# Altium schematic symbol library AL8861QMP-13.SchLib: 1 symbol
Pins are listed as number, name and electrical type; pins without a type are passive.

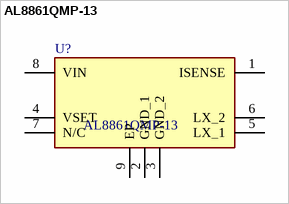
[diagram p0: symbol AL8861QMP-13]

## AL8861QMP-13
designator U?
LED Lighting Drivers LED MV Int Switch MSOP-8EP T&R 2.5K; Manufacturer_Name: Diodes Incorporated; Geometry.Height: 1.1mm; Mouser Part Number: 621-AL8861QMP-13; Mouser Price/Stock: https://www.mouser.co.uk/ProductDetail/Diodes-Incorporated/AL8861QMP-13?qs=T3oQrply3y9Ug0fmv4aCFA%3D%3D; Manufacturer_Part_Number: AL8861QMP-13; Datasheet Link: https://componentsearchengine.com/Datasheets/1/AL8861QMP-13.pdf
footprint SOP65P490X110-9N
pins: 1 ISENSE, 2 GND_1, 3 GND_2, 4 VSET, 5 LX_1, 6 LX_2, 7 N/C, 8 VIN, 9 EP